# Altium footprint library QUTMS_JumperLibrary.PcbLib: 5 footprints
Each footprint in its own frame and in the unit in brackets; x right, y up, seen from the top. Pads: shape width x height; smd on the part's side, far side on the other; paste and mask are expansions set on the pad; w line width, h text height; cw(c..) or ccw(c..) is an arc to the next point about the centre after c.
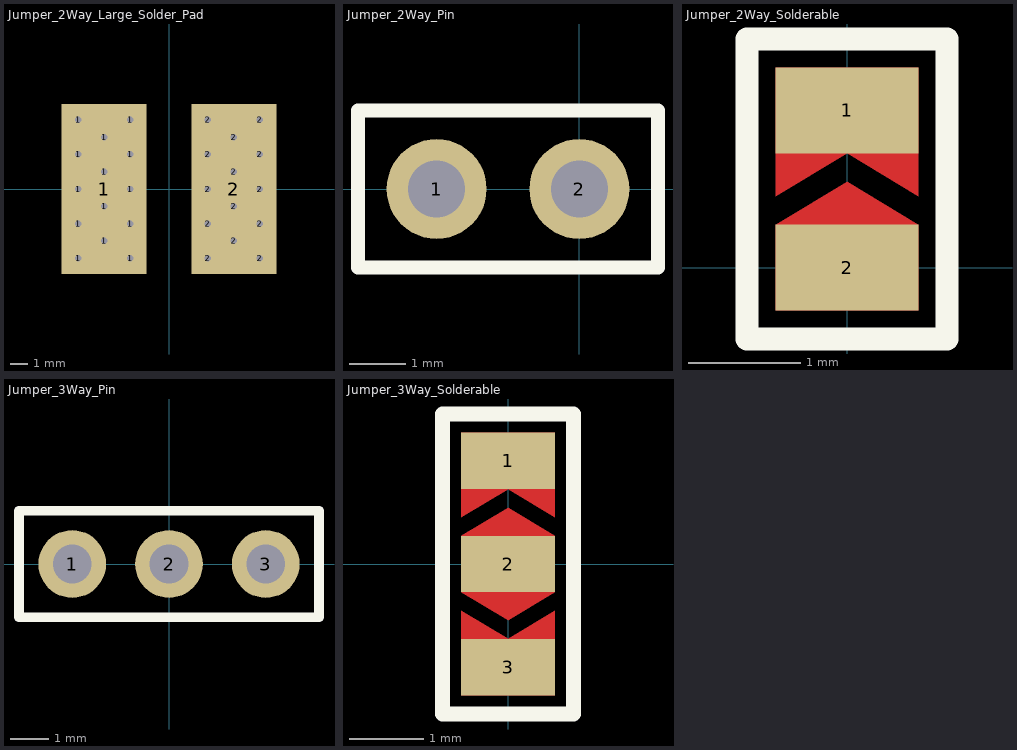
[diagram p0: the footprints below, top view; thin cyan lines are the x and y axes]

## Jumper_2Way_Large_Solder_Pad [mil]
pads (30):
  round 25 hole 15: 1(-210,-160) 1(-210,-80) 1(-210,0) 1(-210,80) 1(-210,160) 1(-150,-120) 1(-150,-40) 1(-150,40) 1(-150,120) 1(-90,-160) 1(-90,-80) 1(-90,0) 1(-90,80) 1(-90,160) 2(90,-160) 2(90,-80) 2(90,0) 2(90,80) 2(90,160) 2(150,-120) 2(150,-40) 2(150,40) 2(150,120) 2(210,-160) 2(210,-80) 2(210,0) 2(210,80) 2(210,160)
  rect 196.85x393.7 smd mask+10: 1(-150,0) 2(150,0)

## Jumper_2Way_Pin [mil]
pads (2):
  round 70 hole 40: 1(-100,0) 2(0,0)
Top Overlay:
  lines w10: -155,-55 55,-55 55,55 -155,55 -155,-55
3D body "77311-y18-02_asm.stp": height 332.16, standoff -120.59, extent -142.38,-47.72 41.87,47.16

## Jumper_2Way_Solderable [mil]
pads (2):
  rect 50x30 smd: 1(0,55) 2(0,0)
Top Layer:
  region: -25,25 0,40 25,25 25,70 -25,70
  region: -25,15 0,30 25,15 25,-15 0,-15 -25,-15
Top Overlay:
  lines w8: -35,-25 35,-25 35,80 -35,80 -35,-25
Top Solder:
  rectangle: -30,-20.1 30,75

## Jumper_3Way_Pin [mil]
pads (3):
  round 70 hole 40: 1(-100,0) 2(0,0) 3(100,0)
Top Overlay:
  lines w10: -155,-55 155,-55 155,55 -155,55 -155,-55
3D body "77311-y18-03_asm.stp": height 332.16, standoff -120.59, extent -142.01,-47.56 142.24,47.32

## Jumper_3Way_Solderable [mil]
pads (3):
  rect 50x30 smd: 1(0,55) 2(0,0) 3(0,-55)
Top Layer:
  region: -25,25 0,40 25,25 25,70 -25,70
  region: 25.03,-24.96 0.03,-39.96 -24.97,-24.96 -24.97,-69.96 25.03,-69.96
  region: -25,15 0,30 25,15 25,-15 0,-30 -25,-15
Top Overlay:
  lines w8: -35,-80 35,-80 35,80 -35,80 -35,-80
Top Solder:
  rectangle: -30,-75 30,75